# Altium schematic symbol library SW_TACTILE_SPST-NO.SchLib: 1 symbol
Pins are listed as number, name and electrical type; pins without a type are passive.

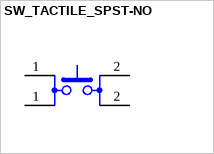
[diagram p0: symbol SW_TACTILE_SPST-NO]

## SW_TACTILE_SPST-NO
designator S?, comment SW_TACTILE-NO
Switch, SPNO SMD; Manufacturer: Panasonic; Manufacturer Part Number: EVQ-Q2U03W; Mechanical Life: 200000Cycles; Actuator Color: White; Contact Current Rating: 20mA; Contact Resistance: 100mR; Number of Poles: 1; Operating Force: 2.6N; Throw Configuration: SPST; Voltage Rating (DC): 15V; Illumination Type: Non-Illuminated,Illuminated; Switch Travel: 0.25mm; Max Voltage Rating (AC): 250V; Switch Function: Off-Mom; Actuator Type: Standard; Actuator Length: 1.3mm; Body Depth: 6mm; Supplier 1: Digi-Key; Supplier Part Number 1: P12955SCT-ND; RoHS: Yes; Category: Tactile Switches; Stock 1: 35170; Pricing 1: 1=0.28000, 10=0.27200, 25=0.25760, 100=0.23310, 250=0.21252, 500=0.19756, 1000=0.16853 (USD); Mount: Surface Mount; Case/Package: SMD/SMT; Contact Plating: Gold,Silver; Color: White; Min Operating Temperature: -40°C; Max Operating Temperature: 85°C; Max Current Rating: 20mA; Packaging: Tape and Reel; Package Quantity: 1; Current Rating: 20mA; Max Voltage Rating (DC): 15V; Termination: SMD/SMT; Electrical Life: 200000Cycles; Orientation: Straight; Series: EVQQ2; Length: 6.5mm; Width: 6mm; Height: 2.5mm; Depth: 6.6mm; Thickness: 1.8mm; Size: 1.8mm; Radiation Hardening: No; REACH SVHC: No SVHC; Lead Free: Lead Free; ComponentLink1URL: https://datasheet.ciiva.com/25603/0900766b810ad3e5-25603904.pdf?src-supplier=RSComponents; ComponentLink1Description: https://datasheet.ciiva.com/25603/0900766b810ad3e5-25603904.pdf?src-supplier=RSComponents; ComponentLink2URL: https://datasheet.ciiva.com/8165/atk0000ce28-8165166.pdf?src-supplier=Avnet; ComponentLink2Description: https://datasheet.ciiva.com/8165/atk0000ce28-8165166.pdf?src-supplier=Avnet; ComponentLink3URL: https://datasheet.ciiva.com/2899/atk0000ce28-2899560.pdf?src-supplier=Digi-Key; ComponentLink3Description: https://datasheet.ciiva.com/2899/atk0000ce28-2899560.pdf?src-supplier=Digi-Key; ComponentLink4URL: https://datasheet.ciiva.com/2899/atk0000ce28-2899561.pdf?src-supplier=Digi-Key; ComponentLink4Description: https://datasheet.ciiva.com/2899/atk0000ce28-2899561.pdf?src-supplier=Digi-Key; ComponentLink5URL: https://datasheet.ciiva.com/2899/atk0000ce28-2899562.pdf?src-supplier=Digi-Key; ComponentLink5Description: https://datasheet.ciiva.com/2899/atk0000ce28-2899562.pdf?src-supplier=Digi-Key; ComponentLink6URL: https://datasheet.ciiva.com/30263/8atk0000ce28-30263950.pdf?src-supplier=Onlinecomponents.com; ComponentLink6Description: https://datasheet.ciiva.com/30263/8atk0000ce28-30263950.pdf?src-supplier=Onlinecomponents.com; ComponentLink7URL: https://datasheet.ciiva.com/17022/70270561-17022925.pdf?src-supplier=Allied+Electronics; ComponentLink7Description: https://datasheet.ciiva.com/17022/70270561-17022925.pdf?src-supplier=Allied+Electronics; ComponentLink8URL: https://datasheet.ciiva.com/16438/atk0000ce28-16438077.pdf?src-supplier=Future+Electronics; ComponentLink8Description: https://datasheet.ciiva.com/16438/atk0000ce28-16438077.pdf?src-supplier=Future+Electronics; ComponentLink9URL: https://datasheet.ciiva.com/46401/28111-46401279.pdf?src-supplier=Element14; ComponentLink9Description: https://datasheet.ciiva.com/46401/28111-46401279.pdf?src-supplier=Element14
footprint SW_TACTILE_SPST-NO (SWITCH TACTILE SPST-NO 0.02A 15V)
pins: 1, 1, 2, 2